# EAGLE library part ESP32-WROOM-KIT (library JLB6_Processor)
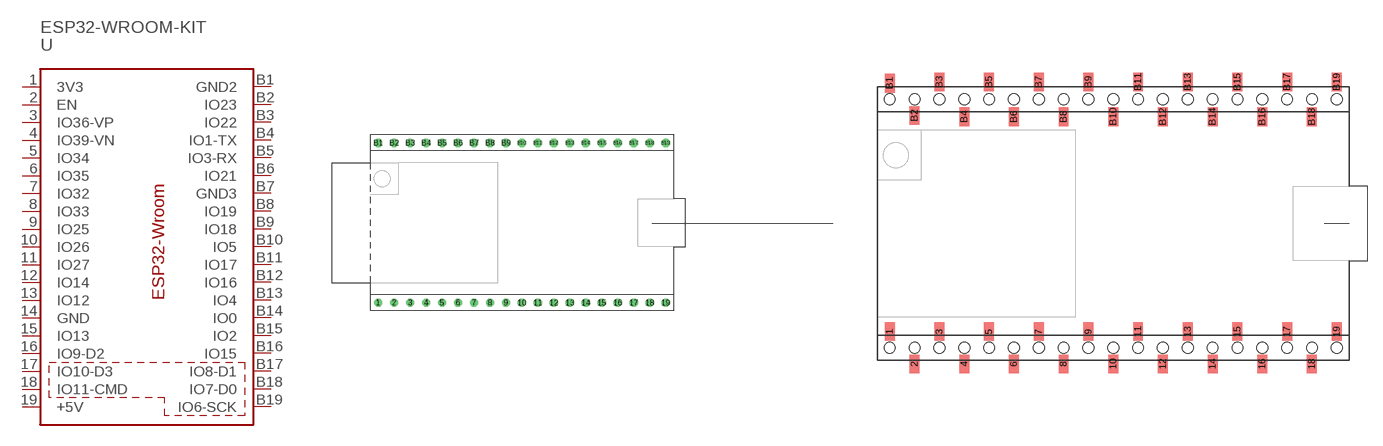
[diagram p34: symbol with the pads of ESP32-38P; footprints ESP32-38P, ESP32-38P-SMD]

Designator prefix -

## ESP32-WROOM-KITTH  [ESP32-38P]
1  3V3  pas
2  EN
3  IO36-VP
4  IO39-VN
5  IO34
6  IO35
7  IO32
8  IO33
9  IO25
10  IO26
11  IO27
12  IO14
13  IO12
14  GND  pwr
15  IO13
16  IO9-D2
17  IO10-D3  nc
18  IO11-CMD  nc
19  +5V  pas
B1  GND2  pwr
B2  IO23
B3  IO22
B4  IO1-TX
B5  IO3-RX
B6  IO21
B7  GND3  pwr
B8  IO19
B9  IO18
B10  IO5
B11  IO17
B12  IO16
B13  IO4
B14  IO0
B15  IO2
B16  IO15
B17  IO8-D1  nc
B18  IO7-D0  nc
B19  IO6-SCK  nc

## ESP32-WROOM-KITSMD  [ESP32-38P-SMD]
Pads as for ESP32-38P

## Footprint ESP32-38P (pad centres in mm)
drill 0.813 octagon: 1 -15.24,-7.62; 2 -12.7,-7.62; 3 -10.16,-7.62; 4 -7.62,-7.62; 5 -5.08,-7.62; 6 -2.54,-7.62; 7 0,-7.62; 8 2.54,-7.62; 9 5.08,-7.62; 10 7.62,-7.62; 11 10.16,-7.62; 12 12.7,-7.62; 13 15.24,-7.62; 14 17.78,-7.62; 15 20.32,-7.62; 16 22.86,-7.62; 17 25.4,-7.62; 18 27.94,-7.62; 19 30.48,-7.62; B1 -15.24,17.78; B2 -12.7,17.78; B3 -10.16,17.78; B4 -7.62,17.78; B5 -5.08,17.78; B6 -2.54,17.78; B7 0,17.78; B8 2.54,17.78; B9 5.08,17.78; B10 7.62,17.78; B11 10.16,17.78; B12 12.7,17.78; B13 15.24,17.78; B14 17.78,17.78; B15 20.32,17.78; B16 22.86,17.78; B17 25.4,17.78; B18 27.94,17.78; B19 30.48,17.78

## Footprint ESP32-38P-SMD (pad centres in mm)
Footprint of ESP32 dev kit (SMD)
smd 1.016 x 1.905: 1 -22.86,-11.049; 2 -20.32,-14.351; 3 -17.78,-11.049; 4 -15.24,-14.351; 5 -12.7,-11.049; 6 -10.16,-14.351; 7 -7.62,-11.049; 8 -5.08,-14.351; 9 -2.54,-11.049; 10 0,-14.351; 11 2.54,-11.049; 12 5.08,-14.351; 13 7.62,-11.049; 14 10.16,-14.351; 15 12.7,-11.049; 16 15.24,-14.351; 17 17.78,-11.049; 18 20.32,-14.351; 19 22.86,-11.049; B1 -22.86,14.351; B2 -20.32,11.049; B3 -17.78,14.478; B4 -15.24,10.922; B5 -12.7,14.478; B6 -10.16,10.922; B7 -7.62,14.478; B8 -5.08,10.922; B9 -2.54,14.478; B10 0,10.922; B11 2.54,14.478; B12 5.08,10.922; B13 7.62,14.478; B14 10.16,10.922; B15 12.7,14.478; B16 15.24,10.922; B17 17.78,14.478; B18 20.32,10.922; B19 22.86,14.478
hole 1.1 at -22.86,12.7
hole 1.1 at -20.32,12.7
hole 1.1 at -17.78,12.7
hole 1.1 at -15.24,12.7
hole 1.1 at -12.7,12.7
hole 1.1 at -10.16,12.7
hole 1.1 at -7.62,12.7
hole 1.1 at -5.08,12.7
hole 1.1 at -2.54,12.7
hole 1.1 at 0,12.7
hole 1.1 at 2.54,12.7
hole 1.1 at 5.08,12.7
hole 1.1 at 7.62,12.7
hole 1.1 at 10.16,12.7
hole 1.1 at 12.7,12.7
hole 1.1 at 15.24,12.7
hole 1.1 at 17.78,12.7
hole 1.1 at 20.32,12.7
hole 1.1 at 22.86,12.7
hole 1.1 at -22.86,-12.7
hole 1.1 at -20.32,-12.7
hole 1.1 at -17.78,-12.7
hole 1.1 at -15.24,-12.7
hole 1.1 at -12.7,-12.7
hole 1.1 at -10.16,-12.7
hole 1.1 at -7.62,-12.7
hole 1.1 at -5.08,-12.7
hole 1.1 at -2.54,-12.7
hole 1.1 at 0,-12.7
hole 1.1 at 2.54,-12.7
hole 1.1 at 5.08,-12.7
hole 1.1 at 7.62,-12.7
hole 1.1 at 10.16,-12.7
hole 1.1 at 12.7,-12.7
hole 1.1 at 15.24,-12.7
hole 1.1 at 17.78,-12.7
hole 1.1 at 20.32,-12.7
hole 1.1 at 22.86,-12.7